# Altium schematic symbol library iRat_2.0.SchLib: 13 symbols
Pins are listed as number, name and electrical type; pins without a type are passive.

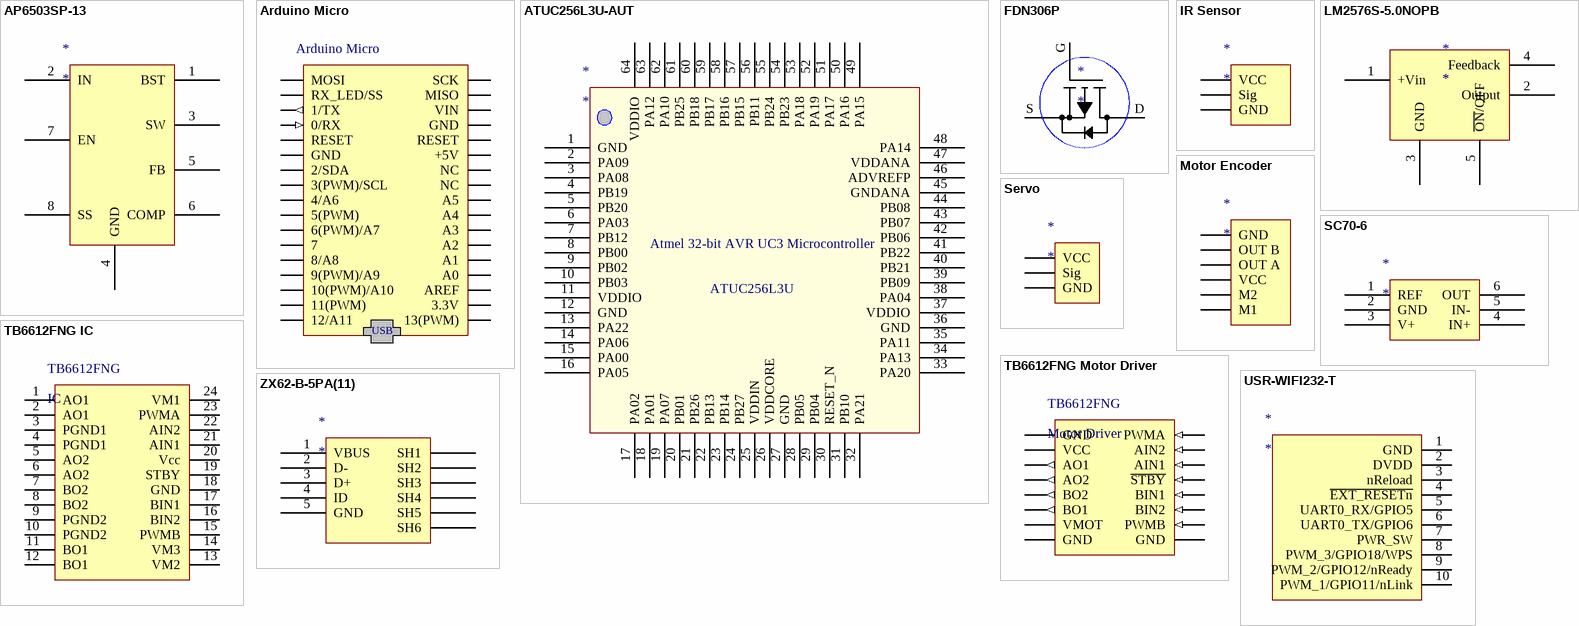
[diagram p0: symbols AP6503SP-13 to ZX62-B-5PA(11)]

## AP6503SP-13
designator *
Adjustable Switching Regulator
footprint SO-8EP
pins: 1 BST, 2 IN, 3 SW, 4 GND, 5 FB, 6 COMP, 7 EN, 8 SS

## Arduino Micro
designator Arduino Micro  (value not drawn)
pins: 0/RX (in), 1/TX (out), 2/SDA, 3(PWM)/SCL, 3.3V, 4/A6, 5(PWM), 6(PWM)/A7, 7, 8/A8, 9(PWM)/A9, 10(PWM)/A10, 11(PWM), 12/A11, 13(PWM), +5V, A0, A1, A2, A3, A4, A5, AREF, GND, GND, MISO, MOSI, NC, NC, RESET, RESET, RX_LED/SS, SCK, VIN
text: USB

## ATUC256L3U-AUT
designator *
Atmel 32-bit AVR UC3 Microcontroller
footprint TQFP64_M (64-Pin Thin Quad Flat Pack 0.5 mm Pitch, IPC Low Density)
pins: 1 GND, 2 PA09, 3 PA08, 4 PB19, 5 PB20, 6 PA03, 7 PB12, 8 PB00, 9 PB02, 10 PB03, 11 VDDIO, 12 GND, 13 PA22, 14 PA06, 15 PA00, 16 PA05, 17 PA02, 18 PA01, 19 PA07, 20 PB01, 21 PB26, 22 PB13, 23 PB14, 24 PB27, 25 VDDIN, 26 VDDCORE, 27 GND, 28 PB05, 29 PB04, 30 RESET_N, 31 PB10, 32 PA21, 33 PA20, 34 PA13, 35 PA11, 36 GND, 37 VDDIO, 38 PA04, 39 PB09, 40 PB21, 41 PB22, 42 PB06, 43 PB07, 44 PB08, 45 GNDANA, 46 ADVREFP, 47 VDDANA, 48 PA14, 49 PA15, 50 PA16, 51 PA17, 52 PA19, 53 PA18, 54 PB23, 55 PB24, 56 PB11, 57 PB15, 58 PB16, 59 PB17, 60 PB18, 61 PB25, 62 PA10, 63 PA12, 64 VDDIO
text: ATUC256L3U

## FDN306P
designator *
footprint FDN306P
pins: D, G, S 3

## IR Sensor
designator *
pins: ?1 VCC, ?2 GND, ?3 Sig

## LM2576S-5.0NOPB
designator *
5V Switching Regulator
footprint LM2576S
pins: 1 +Vin, 2 Output, 3 GND, 4 Feedback, 5 ~{ON}/OFF

## Motor Encoder
designator *
pins: GND, M1, M2, OUT A, OUT B, VCC

## SC70-6
designator *
footprint SC70
pins: 1 REF, 2 GND, 3 V+, 4 IN+, 5 IN-, 6 OUT

## Servo
designator *
pins: ?1 VCC, ?2 Sig, ?3 GND

## TB6612FNG IC
designator TB6612FNG, comment IC
Motor Driver IC
footprint TSOP65P760X160-24N (TSOP, 24-Leads, Body 7.95x5.60mm, Pitch 0.65mm, IPC Medium Density)
pins: 1 AO1, 2 AO1, 3 PGND1, 4 PGND1, 5 AO2, 6 AO2, 7 BO2, 8 BO2, 9 PGND2, 10 PGND2, 11 BO1, 12 BO1, 13 VM2, 14 VM3, 15 PWMB, 16 BIN2, 17 BIN1, 18 GND, 19 STBY, 20 Vcc, 21 AIN1, 22 AIN2, 23 PWMA, 24 VM1

## TB6612FNG Motor Driver
designator TB6612FNG, comment Motor Driver
pins: \STBY (in), AIN1 (in), AIN2 (in), AO1 (out), AO2 (out), BIN1 (in), BIN2 (in), BO1 (out), BO2 (out), GND, GND, GND, PWMA (in), PWMB (in), VCC, VMOT

## USR-WIFI232-T
designator *
footprint USR-WIFI232-T
footprint USR-WIFI232-T SMD Connector
pins: 1 GND, 2 DVDD "+3.3V@250mA Power", 3 nReload, 4 ~{EXT_RESETn}, 5 UART0_RX/GPIO5, 6 UART0_TX/GPIO6, 7 PWR_SW, 8 PWM_3/GPIO18/WPS, 9 PWM_2/GPIO12/nReady, 10 PWM_1/GPIO11/nLink

## ZX62-B-5PA(11)
designator *
Micro-B USB Receptacle
footprint ZX62-B-5PA(11) (Micro)
pins: 1 VBUS "+5V", 2 D- , 3 D+, 4 ID, 5 GND, SH1, SH2, SH3, SH4, SH5, SH6